# EAGLE library part EMW3165 (library EMW3165)
EMW3165 - Cortex-M4 based WiFi SoC Module EMW3165 is a low-power embedded Wi-Fi module integrates a wireless LAN MAC/baseband /radio, and a Cortex-M4 microcontroller STM32F411CE that runs a unique "self-hosted" Wi-Fi networking library and software application stack. EMW3165 has 2M bytes of on-board flash besides 512K bytes of in-chip flash, 128K bytes RAM and rich peripherals for user embedded Wi-Fi applications. EMW3165 is also a MiCO platform, users can build their own embedded Wi-Fi applications based on MiCO library which manage all of the Wi-Fi MAC and TCP/IP stack processing. We also provide independent series of particular firmware to meet typical applications: Wireless UART, Cloud Service etc. Features: Consists of a Cortex-M4 microcontroller and an IEEE 802.11™ b/g/n chip Cortex-M4 core at 100MHz 2M bytes on-board SPI flash and 512K bytes on-chip flash 128K bytes RAM Operation voltage:3.0V~3.6V Peripherals 22 GPIOs JTAG/SWD debug interface Wi-Fi connectivity 802.11b, 802.11g, 802.11n (single stream) WEP, WPA/WPA2 PSK/Enterprise 16.5dBm@11b，14.5dBm@11g 13.5dBm@11n Receiver Sensitivity: -87 dBm Station, Soft AP and Wi-Fi direct Support EasyLink On-board PCB antenna，IPEX connector for external antenna CE，FCC compliant Link: http://www.seeedstudio.com/depot/EMW3165-CortexM4-based-WiFi-SoC-Module-p-2488.html
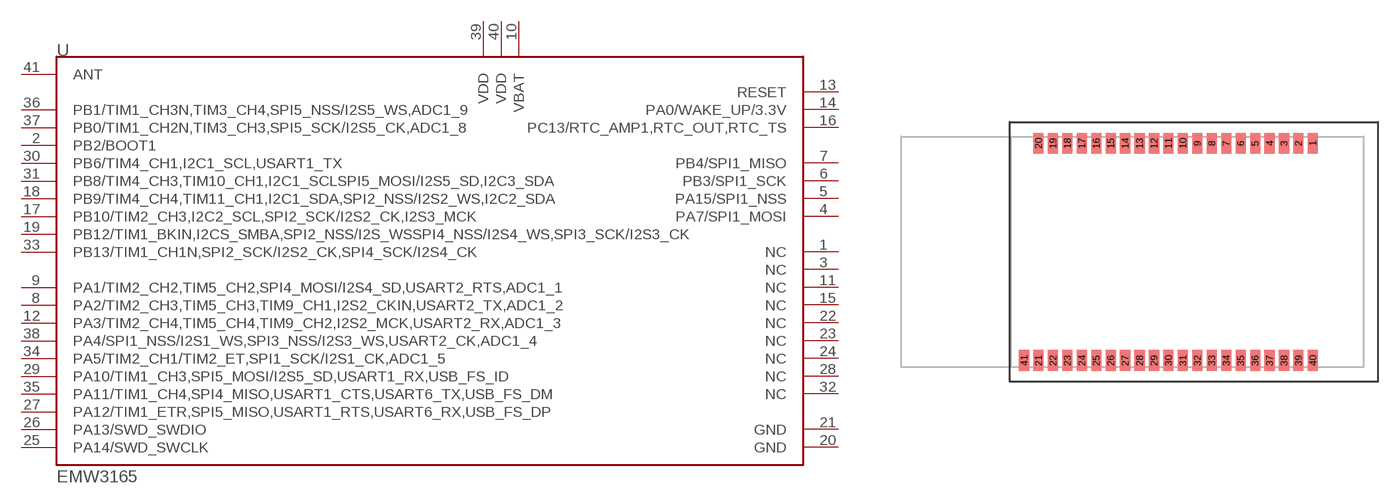
[diagram p0: symbol with the pads of EMW3162_PCB; footprint EMW3162_PCB]

Designator prefix U

## EMW3165  [EMW3162_PCB]
1  NC  nc
2  PB2/BOOT1
3  NC  nc
4  PA7/SPI1_MOSI
5  PA15/SPI1_NSS
6  PB3/SPI1_SCK
7  PB4/SPI1_MISO
8  PA2/TIM2_CH3,TIM5_CH3,TIM9_CH1,I2S2_CKIN,USART2_TX,ADC1_2
9  PA1/TIM2_CH2,TIM5_CH2,SPI4_MOSI/I2S4_SD,USART2_RTS,ADC1_1
10  VBAT  pwr
11  NC  nc
12  PA3/TIM2_CH4,TIM5_CH4,TIM9_CH2,I2S2_MCK,USART2_RX,ADC1_3
13  RESET
14  PA0/WAKE_UP/3.3V
15  NC  nc
16  PC13/RTC_AMP1,RTC_OUT,RTC_TS
17  PB10/TIM2_CH3,I2C2_SCL,SPI2_SCK/I2S2_CK,I2S3_MCK
18  PB9/TIM4_CH4,TIM11_CH1,I2C1_SDA,SPI2_NSS/I2S2_WS,I2C2_SDA
19  PB12/TIM1_BKIN,I2CS_SMBA,SPI2_NSS/I2S_WSSPI4_NSS/I2S4_WS,SPI3_SCK/I2S3_CK
20  GND  pwr
21  GND  pwr
22  NC  nc
23  NC  nc
24  NC  nc
25  PA14/SWD_SWCLK
26  PA13/SWD_SWDIO
27  PA12/TIM1_ETR,SPI5_MISO,USART1_RTS,USART6_RX,USB_FS_DP
28  NC  nc
29  PA10/TIM1_CH3,SPI5_MOSI/I2S5_SD,USART1_RX,USB_FS_ID
30  PB6/TIM4_CH1,I2C1_SCL,USART1_TX
31  PB8/TIM4_CH3,TIM10_CH1,I2C1_SCLSPI5_MOSI/I2S5_SD,I2C3_SDA
32  NC  nc
33  PB13/TIM1_CH1N,SPI2_SCK/I2S2_CK,SPI4_SCK/I2S4_CK
34  PA5/TIM2_CH1/TIM2_ET,SPI1_SCK/I2S1_CK,ADC1_5
35  PA11/TIM1_CH4,SPI4_MISO,USART1_CTS,USART6_TX,USB_FS_DM
36  PB1/TIM1_CH3N,TIM3_CH4,SPI5_NSS/I2S5_WS,ADC1_9
37  PB0/TIM1_CH2N,TIM3_CH3,SPI5_SCK/I2S5_CK,ADC1_8
38  PA4/SPI1_NSS/I2S1_WS,SPI3_NSS/I2S3_WS,USART2_CK,ADC1_4
39  VDD  pwr
40  VDD  pwr
41  ANT

## Footprint EMW3162_PCB (pad centres in mm)
smd 0.7 x 1.45: 1 28.5,15.525; 2 27.5,15.525; 3 26.5,15.525; 4 25.5,15.525; 5 24.5,15.525; 6 23.5,15.525; 7 22.5,15.525; 8 21.5,15.525; 9 20.5,15.525; 10 19.5,15.525; 11 18.5,15.525; 12 17.5,15.525; 13 16.5,15.525; 14 15.5,15.525; 15 14.5,15.525; 16 13.5,15.525; 17 12.5,15.525; 18 11.5,15.525; 19 10.5,15.525; 20 9.5,15.525; 21 9.5,0.475; 22 10.5,0.475; 23 11.5,0.475; 24 12.5,0.475; 25 13.5,0.475; 26 14.5,0.475; 27 15.5,0.475; 28 16.5,0.475; 29 17.5,0.475; 30 18.5,0.475; 31 19.5,0.475; 32 20.5,0.475; 33 21.5,0.475; 34 22.5,0.475; 35 23.5,0.475; 36 24.5,0.475; 37 25.5,0.475; 38 26.5,0.475; 39 27.5,0.475; 40 28.5,0.475; 41 8.5,0.475